# Altium footprint library 四旋翼pcb库.PcbLib: 21 footprints (part 2 of 2)
Each footprint in its own frame and in the unit in brackets; x right, y up, seen from the top. Pads: shape width x height; smd on the part's side, far side on the other; paste and mask are expansions set on the pad; w line width, h text height; cw(c..) or ccw(c..) is an arc to the next point about the centre after c.
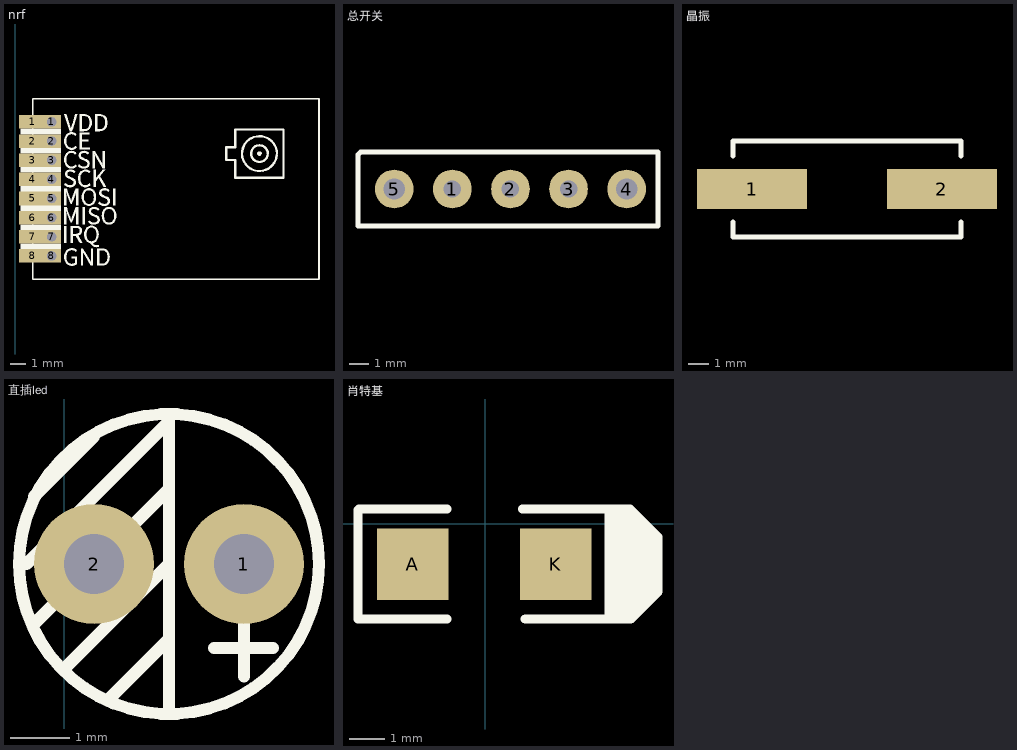
[diagram p1: the footprints below, top view; thin cyan lines are the x and y axes]

## nrf [mil]
pads (16):
  rect 70.87x35.43 smd: 1(45.44,-418.58) 2(45.44,-468.58) 3(45.44,-518.58) 4(45.44,-568.58) 5(45.44,-618.58) 6(45.44,-668.58) 7(45.44,-718.58) 8(45.44,-768.58)
  rect 47.24x35.43 hole 23.62 slot 23.82 at 0 deg: 1(95.44,-418.58) 2(95.44,-468.58) 3(95.44,-518.58) 4(95.44,-568.58) 5(95.44,-618.58) 6(95.44,-668.58) 7(95.44,-718.58) 8(95.44,-768.58)
Top Overlay:
  drawing of 138 lines, arcs and shapes, not listed
Bottom Overlay:
  region: 119.06,-450.48 119.06,-436.7 13.94,-436.7 13.94,-450.48
  region: 119.06,-500.48 119.06,-486.7 13.94,-486.7 13.94,-500.48
  region: 119.06,-550.48 119.06,-536.7 13.94,-536.7 13.94,-550.48
  region: 119.06,-600.48 119.06,-586.7 13.94,-586.7 13.94,-600.48
  region: 119.06,-650.48 119.06,-636.7 13.94,-636.7 13.94,-650.48
  region: 119.06,-700.48 119.06,-686.7 13.94,-686.7 13.94,-700.48
  region: 119.06,-750.48 119.06,-736.7 13.94,-736.7 13.94,-750.48

## 总开关 [mm]
pads (5):
  round 2 hole 0.9: 1(-161.75,-118.618) 2(-158.75,-118.618) 3(-155.75,-118.618)
  round 2 hole 1.1: 4(-152.75,-118.618) 5(-164.75,-118.618)
Top Overlay:
  lines w0.254: -166.624,-120.523 -166.624,-116.84 -166.497,-116.713 -151.13,-116.713 -151.13,-120.523 -166.624,-120.523

## 晶振 [mm]
pads (2):
  rect 5.5x2 smd: 1(171.241,-121.624) 2(180.741,-121.624)
Top Overlay:
  lines w0.254: 170.291,-123.274 170.291,-124.024 181.691,-124.024 181.691,-123.274 ; 170.291,-119.974 170.291,-119.224 181.691,-119.224 181.691,-119.974
3D body "User Library-hc49_cystal.STEP": height 4, standoff 0, extent 169.291,-124.086 182.691,-119.186

## 直插led [mil]
pads (2):
  round 80 hole 40: 1(120,-120) 2(20,-120)
Top Overlay:
  circle w8: c70,-120 r100
  lines w8: -25,-120 70,-25 70,-215 ; -20,-160 70,-70 ; -20,-75 20,-35 ; 0,-190 70,-120 ; 30,-210 70,-170 ; 100,-176 139.37,-176 ; 120,-195 120,-155

## 肖特基 [mm]
pads (2):
  rect 2x2 smd: A(-2.032,-1.143) K(1.968,-1.143)
Top Overlay:
  rectangle: 3.454,-2.616 4.115,0.381
  rectangle: 3.454,-2.438 4.347,0.098
  rectangle: 4.191,-2.261 4.593,-0.148
  rectangle: 4.293,-1.753 4.826,-0.381
  rectangle: 4.318,-1.905 4.826,-1.524
  lines w0.254: -3.556,0.381 -3.556,-2.667 -1.067,-2.667 ; -3.531,0.406 -1.067,0.406 ; 1.041,0.406 3.454,0.406 3.988,0.406 4.039,0.406 4.801,-0.356 4.826,-0.381 4.826,-1.905 4.115,-2.616 4.064,-2.667 3.454,-2.667 ; 1.118,-2.667 3.454,-2.667 ; 3.454,0.381 3.454,-2.667 ; 4.23,0.215 4.23,-0.11 4.23,-0.318 4.399,-0.148 4.466,-0.148 4.826,-0.508 ; 4.547,-1.981 4.547,-1.753